# EAGLE library part LM358-N (library 0_texas-instrument)
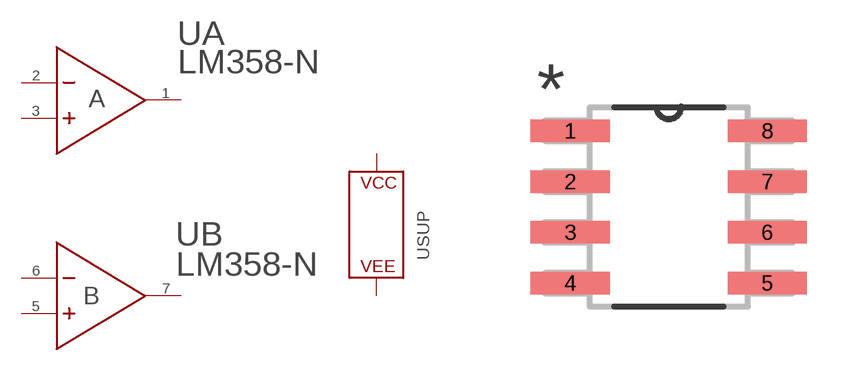
[diagram p0: symbol with the pads of SOP08; footprint SOP08]

Designator prefix U; gates A=LM358AM_1_D B=LM358AM_2_D SUP=SUPLY_RAIL

## LM358-N  [SOP08]
1  A:OUT  pas
2  A:IN-  pas
3  A:IN+  pas
4  SUP:VEE  sup
5  B:IN+  pas
6  B:IN-  pas
7  B:OUT  pas
8  SUP:VCC  sup

## Footprint SOP08 (pad centres in mm)
smd 1.981 x 0.559: 1 -2.464,1.905; 2 -2.464,0.635; 3 -2.464,-0.635; 4 -2.464,-1.905; 5 2.464,-1.905; 6 2.464,-0.635; 7 2.464,0.635; 8 2.464,1.905